# EAGLE library part M24M02-DRMN6TP (library circuit_tree)
IC
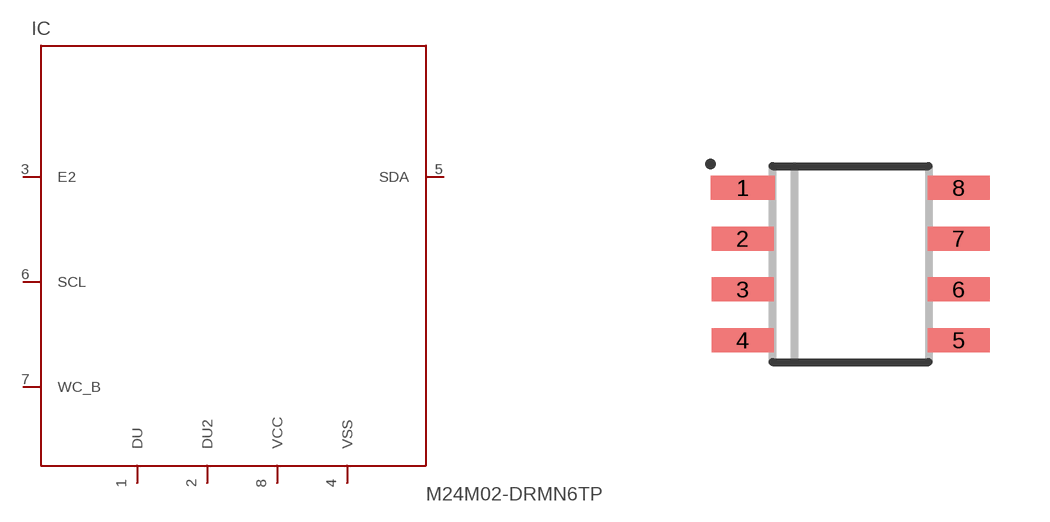
[diagram p2: symbol with the pads of SOIC-8; footprint SOIC-8]

Designator prefix IC

## M24M02-DRMN6TP  [SOIC-8]
1  DU  pas
2  DU2  pas
3  E2  pas
4  VSS  pas
5  SDA  pas
6  SCL  pas
7  WC_B  pas
8  VCC  pas

## Footprint SOIC-8 (pad centres in mm)
smd 1.6 x 0.6: 1 -2.7,1.905
smd 1.55 x 0.6: 2 -2.7,0.635; 3 -2.7,-0.635; 4 -2.7,-1.905; 5 2.7,-1.905; 6 2.7,-0.635; 7 2.7,0.635; 8 2.7,1.905